# EAGLE library part TYPE-C-31-M-17 (library angrypig7_Library)
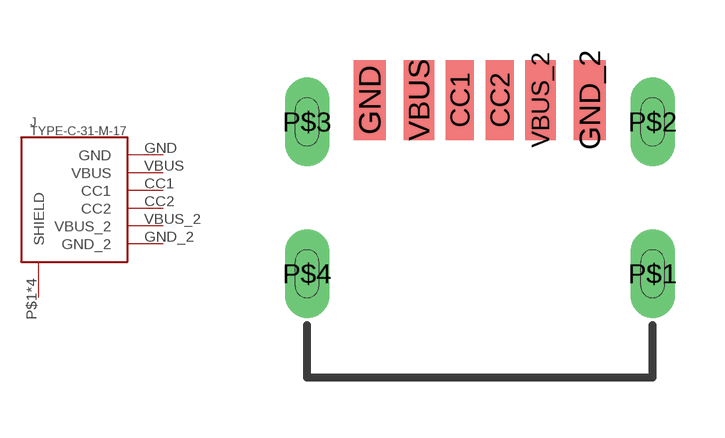
[diagram p0: symbol with the pads of TYPE-C-31-M-17; footprint TYPE-C-31-M-17]

Designator prefix J

## TYPE-C-31-M-17  [TYPE-C-31-M-17]
CC1  CC1
CC2  CC2
GND  GND
GND_2  GND_2
P$1  SHIELD
P$2  SHIELD
P$3  SHIELD
P$4  SHIELD
VBUS  VBUS
VBUS_2  VBUS_2

## Footprint TYPE-C-31-M-17 (pad centres in mm)
smd 0.7 x 2: CC1 -0.5,0.4; CC2 0.5,0.4
smd 0.8 x 2: GND -2.75,0.4; GND_2 2.75,0.4
drill 0.6 pad 1.1 long: P$1 4.32,-3.95; P$2 4.32,-0.15; P$3 -4.32,-0.15; P$4 -4.32,-3.95
smd 0.76 x 2: VBUS -1.52,0.4; VBUS_2 1.52,0.4